# Altium footprint library PcbLib1.PcbLib: 2 footprints
Each footprint in its own frame and in the unit in brackets; x right, y up, seen from the top. Pads: shape width x height; smd on the part's side, far side on the other; paste and mask are expansions set on the pad; w line width, h text height; cw(c..) or ccw(c..) is an arc to the next point about the centre after c.
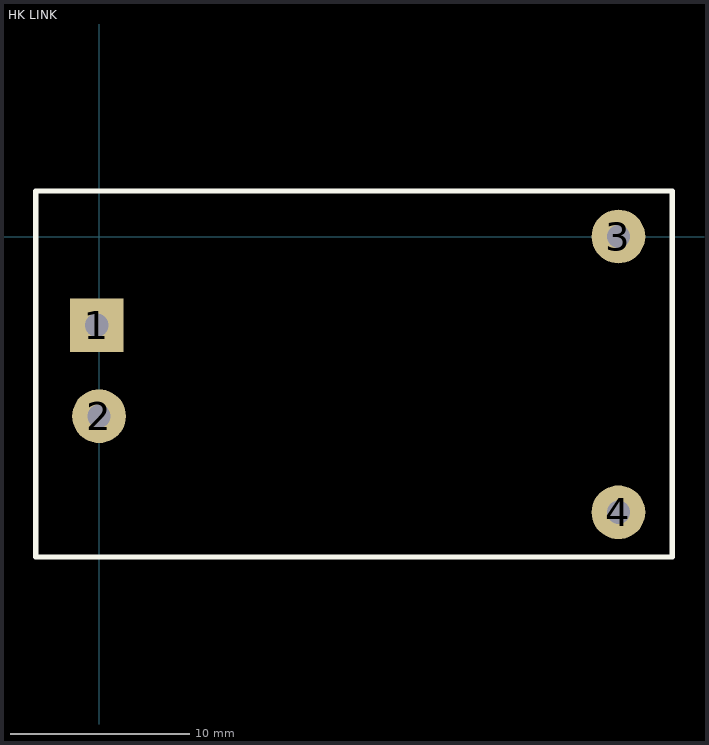
[diagram p0: the footprints below, top view; thin cyan lines are the x and y axes]

## HK LINK [mm]
pads (4):
  rect 3x3 hole 1.3: 1(-0.127,-4.953)
  round 3 hole 1.3: 2(0,-10.033) 3(29,0) 4(29,-15.4)
Top Overlay:
  lines w0.3: -3.534,-17.893 -3.534,2.54 10.334,2.54 32.004,2.54 32.004,-17.893 -3.534,-17.893
3D body: height 15, standoff 0, extent -3.81,-18.034 31.877,2.413

## PCBComponent_1 [mm]